# Altium schematic symbol library MP5073.SchLib: 1 symbol
Pins are listed as number, name and electrical type; pins without a type are passive.

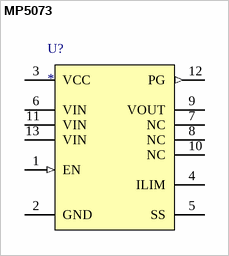
[diagram p0: symbol MP5073]

## MP5073
designator U?
pins: 1 EN (in), 2 GND (power), 3 VCC (power), 4 ILIM, 5 SS, 6 VIN (power), 7 NC, 8 NC, 9 VOUT (power), 10 NC, 11 VIN (power), 12 PG (out), 13 VIN (power)